# Altium footprint library SOP32L.PcbLib: 2 footprints
Each footprint in its own frame and in the unit in brackets; x right, y up, seen from the top. Pads: shape width x height; smd on the part's side, far side on the other; paste and mask are expansions set on the pad; w line width, h text height; cw(c..) or ccw(c..) is an arc to the next point about the centre after c.
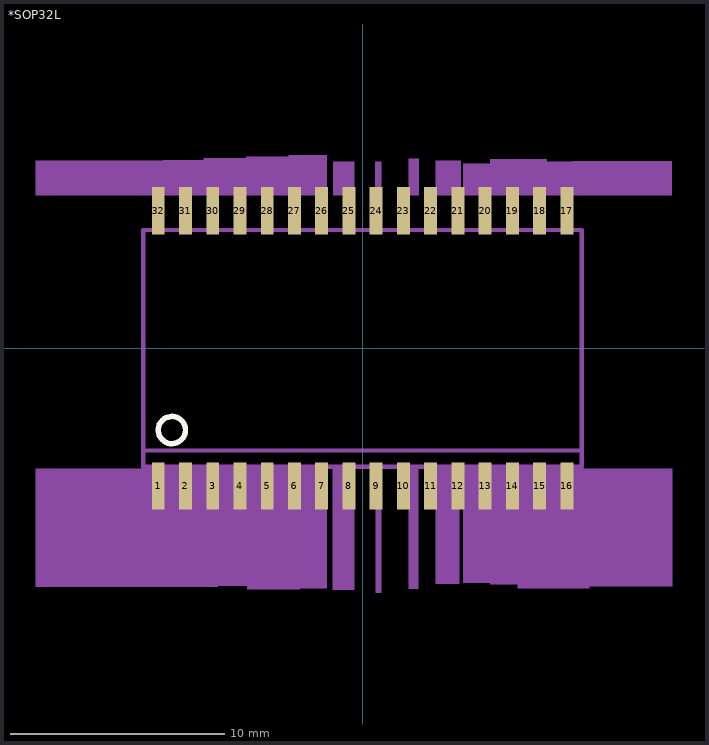
[diagram p0: the footprints below, top view; thin cyan lines are the x and y axes]

## *SOP32L [mm]
pads (32):
  rect 0.6x2.2 smd: 1(-9.525,-6.416) 2(-8.255,-6.416) 3(-6.985,-6.416) 4(-5.715,-6.416) 5(-4.445,-6.416) 6(-3.175,-6.416) 7(-1.905,-6.416) 8(-0.635,-6.416) 9(0.635,-6.416) 10(1.905,-6.416) 11(3.175,-6.416) 12(4.445,-6.416) 13(5.715,-6.416) 14(6.985,-6.416) 15(8.255,-6.416) 16(9.525,-6.416) 17(9.525,6.416) 18(8.255,6.416) 19(6.985,6.416) 20(5.715,6.416) 21(4.445,6.416) 22(3.175,6.416) 23(1.905,6.416) 24(0.635,6.416) 25(-0.635,6.416) 26(-1.905,6.416) 27(-3.175,6.416) 28(-4.445,6.416) 29(-5.715,6.416) 30(-6.985,6.416) 31(-8.255,6.416) 32(-9.525,6.416)
Top Overlay:
  circle w0.254: c-8.89,-3.81 r0.635
Mechanical 4:
  drawing of 78 lines, arcs and shapes, not listed

## PCBComponent_1 [mm]